# Altium schematic symbol library LARS_409_SWITCH.SCHLIB: 8 symbols
Pins are listed as number, name and electrical type; pins without a type are passive.

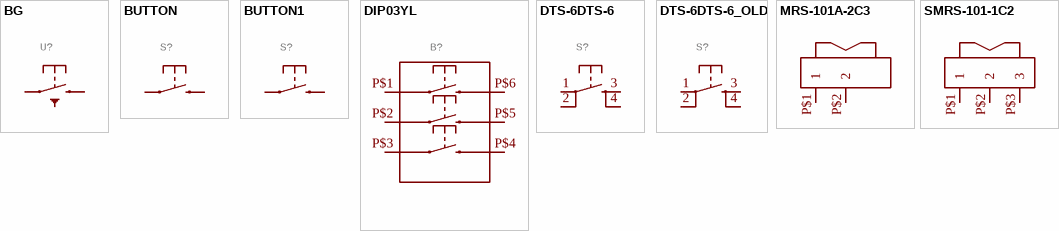
[diagram p0: symbols BG to SMRS-101-1C2]

## BG
designator U?
GateName_1: G$1; SymbolName_1: BUTTONGND; DeviceSetName: BG; LibraryName: LARS_409_SWITCH; Package: TS-1010-C-A
footprint TS-1010-C-A
pins: P$1 3, P$2 4, P$3,4 P$1 (io)

## BUTTON
designator S?
GateName_1: G$1; SymbolName_1: BUTTON; LibraryName: LARS_409_SWITCH; DeviceSetName: BUTTON; Package: BUTTON
footprint BUTTON
pins: 1 3, 2 4

## BUTTON1
designator S?
GateName_1: G$1; SymbolName_1: BUTTON; DeviceName: 1; LibraryName: LARS_409_SWITCH; DeviceSetName: BUTTON; Package: 3X4X2
footprint 3X4X2
pins: P$1 3, P$2 4

## DIP03YL
designator B?
GateName_1: G$1; SymbolName_1: SERIES-219; DeviceSetName: DIP03YL; LibraryName: LARS_409_SWITCH; Package: DIP03YL
footprint DIP03YL
pins: P$1 31, P$2 2, P$3 3, P$4 34, P$5 5, P$6 6

## DTS-6DTS-6
designator S?
GateName_1: G$1; SymbolName_1: CLOCK_BUTTON; DeviceName: DTS-6; LibraryName: LARS_409_SWITCH; DeviceSetName: DTS-6; Package: DTS-6
footprint DTS-6
pins: 1, 2, 3, 4

## DTS-6DTS-6_OLD
designator S?
GateName_1: G$1; SymbolName_1: CLOCK_BUTTON; DeviceName: DTS-6_OLD; DeviceSetName: DTS-6; LibraryName: LARS_409_SWITCH; Package: DTS-6_OLD
footprint DTS-6_OLD
pins: 1, 2, 3, 4

## MRS-101A-2C3
designator ?
GateName_1: G$1; SymbolName_1: BUT-2; DeviceSetName: MRS-101A-2C3; LibraryName: LARS_409_SWITCH; Package: MRS-101A-2C3
footprint MRS-101A-2C3
pins: P$1 1 (io), P$2 2 (io)

## SMRS-101-1C2
designator ?
GateName_1: G$1; SymbolName_1: BUT-3; DeviceSetName: SMRS-101-1C2; LibraryName: LARS_409_SWITCH; Package: SMRS-101-1C2
footprint SMRS-101-1C2
pins: P$1 1 (io), P$2 2 (io), P$3 3 (io)